# EAGLE library part ADC122S655 (library my_ic)
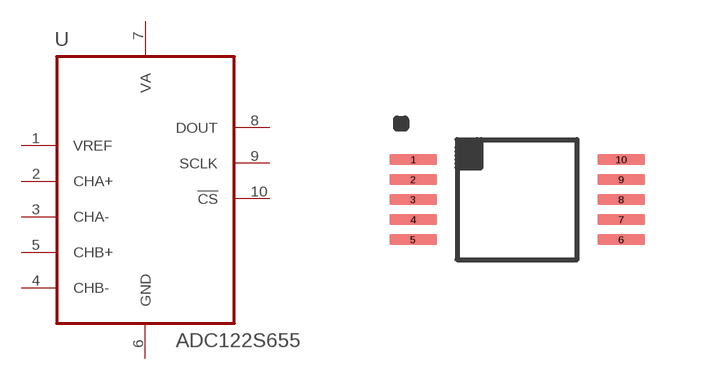
[diagram p32: symbol with the pads of VSSOP-10; footprint VSSOP-10]

Designator prefix -

## ADC122S655  [VSSOP-10]
1  VREF  pwr
2  CHA+  in
3  CHA-  in
4  CHB-  in
5  CHB+  in
6  GND  pas
7  VA  pwr
8  DOUT  in
9  SCLK  in
10  !CS  in

## Footprint VSSOP-10 (pad centres in mm)
smd 1.2 x 0.27: 1 -2.6,1; 2 -2.6,0.5; 3 -2.6,0; 4 -2.6,-0.5; 5 -2.6,-1; 6 2.6,-1; 7 2.6,-0.5; 8 2.6,0; 9 2.6,0.5; 10 2.6,1